# EAGLE library part RFM12BP (library hopeRF)
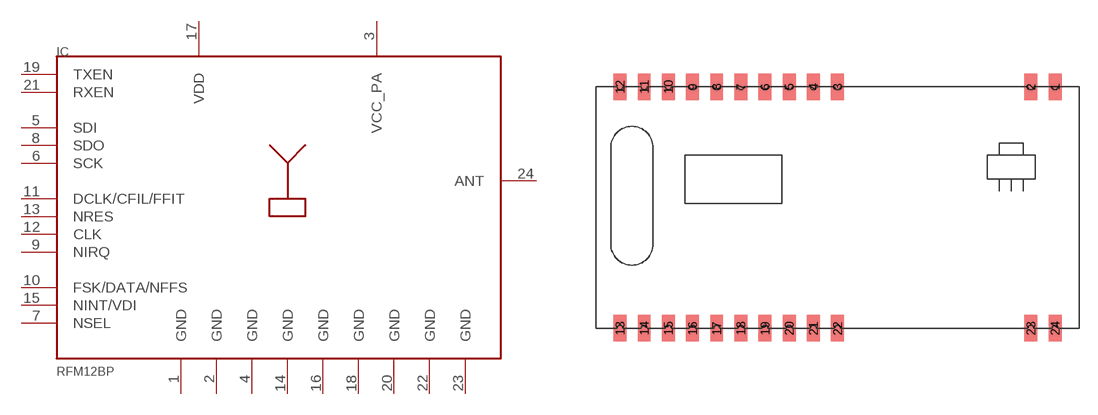
[diagram p4: symbol with the pads of RFM_BP; footprint RFM_BP]

Designator prefix IC

## RFM12BP  [RFM_BP]
1  GND  pwr
2  GND  pwr
3  VCC_PA  pwr
4  GND  pwr
5  SDI
6  SCK
7  NSEL
8  SDO
9  NIRQ
10  FSK/DATA/NFFS
11  DCLK/CFIL/FFIT
12  CLK
13  NRES
14  GND  pwr
15  NINT/VDI
16  GND  pwr
17  VDD  pwr
18  GND  pwr
19  TXEN
20  GND  pwr
21  RXEN
22  GND  pwr
23  GND  pwr
24  ANT  out

## Footprint RFM_BP (pad centres in mm)
smd 1.067 x 2.184: 1 30.62,13.65; 2 28.62,13.65; 3 12.62,13.65; 4 10.62,13.65; 5 8.62,13.65; 6 6.62,13.65; 7 4.62,13.65; 8 2.62,13.65; 9 0.62,13.65; 10 -1.38,13.65; 11 -3.38,13.65; 12 -5.38,13.65; 13 -5.38,-6.35; 14 -3.38,-6.35; 15 -1.38,-6.35; 16 0.62,-6.35; 17 2.62,-6.35; 18 4.62,-6.35; 19 6.62,-6.35; 20 8.62,-6.35; 21 10.62,-6.35; 22 12.62,-6.35; 23 28.62,-6.35; 24 30.62,-6.35